# EAGLE library part 658801103040 (library WR-BTB)
WR-BTB Board to Board Characteristics Insulator flammability rating: UL94 V-0 Defined board to board distance from 5.00 mm up to 16.00 mm Available pin-counts: 64 pins (1.0 mm version) / 40, 80 or 100 pins (0.8 mm version) Contact plating: selective gold Operating temperature: -55 °C up to +85 °C Quality class: 30 mating cycles Contact resistance: 30 mΩ Working Voltage: 100 V (AC) UL approval: E323964 Applications Board-to-board connection for secure and fast data connections Defined PCB spacing In conjunction with SMT spacers or threaded spacers, a stable connection of stacked PCBs. <https://www.we-online.com/components/media/o790799v209%20WR-BTB_Gruppe.jpg> Details see: www.we-online.com/en/components/products/WR_BTB <www.we-online.com/catalog/WR_BTB/?utm_source=eagle_model&utm_medium=description_link&utm_campaign=eisos_eagle> Updated by Ella 2025-05-14 2025(C) Würth Elektronik
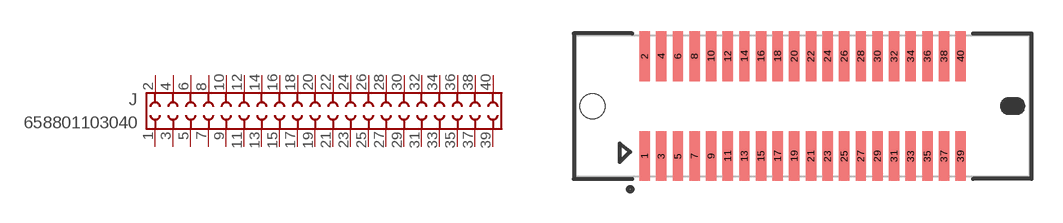
[diagram p1: symbol with the pads of 658801103040; footprint 658801103040]

Designator prefix J

## 658801103040 (DATASHEET-URL: https://www.we-online.com/redexpert/spec/658801103040?ae; GENDER: Female Receptacle; HEIGHT: 11.75mm; IR: 500mA; MOUNT: SMT; PACKAGING: Tape and Reel with Cap; PART-NUMBER: 658801103040; PINS: 40; PITCH: 0.8mm; TYPE: Vertical; VALUE: 658801103040)  [658801103040]
1  1  pas
2  2  pas
3  3  pas
4  4  pas
5  5  pas
6  6  pas
7  7  pas
8  8  pas
9  9  pas
10  10  pas
11  11  pas
12  12  pas
13  13  pas
14  14  pas
15  15  pas
16  16  pas
17  17  pas
18  18  pas
19  19  pas
20  20  pas
21  21  pas
22  22  pas
23  23  pas
24  24  pas
25  25  pas
26  26  pas
27  27  pas
28  28  pas
29  29  pas
30  30  pas
31  31  pas
32  32  pas
33  33  pas
34  34  pas
35  35  pas
36  36  pas
37  37  pas
38  38  pas
39  39  pas
40  40  pas

## Footprint 658801103040 (pad centres in mm)
WR-BTB Board to Board Pitch: 0.8mm, Receptacle, 40pins, SMT Height = 11.75mm
smd 0.5 x 2.4: 1 -7.6,-2.4; 2 -7.6,2.4; 3 -6.8,-2.4; 4 -6.8,2.4; 5 -6,-2.4; 6 -6,2.4; 7 -5.2,-2.4; 8 -5.2,2.4; 9 -4.4,-2.4; 10 -4.4,2.4; 11 -3.6,-2.4; 12 -3.6,2.4; 13 -2.8,-2.4; 14 -2.8,2.4; 15 -2,-2.4; 16 -2,2.4; 17 -1.2,-2.4; 18 -1.2,2.4; 19 -0.4,-2.4; 20 -0.4,2.4; 21 0.4,-2.4; 22 0.4,2.4; 23 1.2,-2.4; 24 1.2,2.4; 25 2,-2.4; 26 2,2.4; 27 2.8,-2.4; 28 2.8,2.4; 29 3.6,-2.4; 30 3.6,2.4; 31 4.4,-2.4; 32 4.4,2.4; 33 5.2,-2.4; 34 5.2,2.4; 35 6,-2.4; 36 6,2.4; 37 6.8,-2.4; 38 6.8,2.4; 39 7.6,-2.4; 40 7.6,2.4
hole 1.2 at -10.1,0
hole 0.8 at 10.1,0